# Altium schematic symbol library 2Channel_N_Mosfet.SchLib: 1 symbol
Pins are listed as number, name and electrical type; pins without a type are passive.

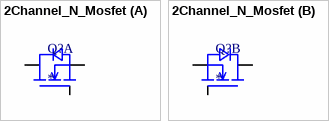
[diagram p0: symbol 2Channel_N_Mosfet]

## 2Channel_N_Mosfet
designator Q?
part A pins: D2, G2, S2
part B pins: D1, G1, S1